# EAGLE library part PROG_CON (library OpenMotics)
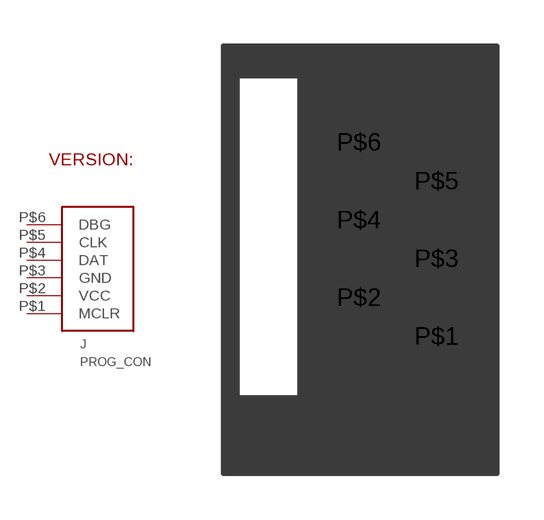
[diagram p17: symbol with the pads of PROG_CON_WITH_VERSION; footprint PROG_CON_WITH_VERSION]

Designator prefix J

## PROG_CON  [PROG_CON_WITH_VERSION]
P$1  MCLR
P$2  VCC
P$3  GND
P$4  DAT
P$5  CLK
P$6  DBG

## Footprint PROG_CON_WITH_VERSION (pad centres in mm)
drill 0.8 round: P$1 0,0; P$2 -2.54,1.27; P$3 0,2.54; P$4 -2.54,3.81; P$5 0,5.08; P$6 -2.54,6.35
hole 1.5 at -1.8,-1.4